# Altium schematic symbol library electrodragon.SchLib: 1 symbol
Pins are listed as number, name and electrical type; pins without a type are passive.

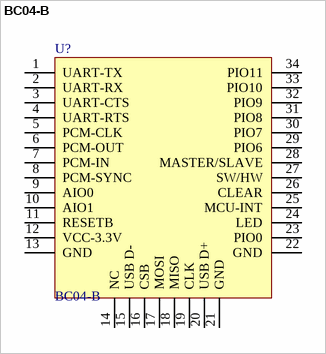
[diagram p0: symbol BC04-B]

## BC04-B
designator U?
Bluetooth module; Part Number: Javan
pins: 1 UART-TX, 2 UART-RX, 3 UART-CTS, 4 UART-RTS, 5 PCM-CLK, 6 PCM-OUT, 7 PCM-IN, 8 PCM-SYNC, 9 AIO0, 10 AIO1, 11 RESETB, 12 VCC-3.3V, 13 GND, 14 NC, 15 USB D-, 16 CSB, 17 MOSI, 18 MISO, 19 CLK, 20 USB D+, 21 GND, 22 GND, 23 PIO0, 24 LED, 25 MCU-INT, 26 CLEAR, 27 SW/HW, 28 MASTER/SLAVE, 29 PIO6, 30 PIO7, 31 PIO8, 32 PIO9, 33 PIO10, 34 PIO11